# EAGLE library part M111-P44 (library amd-mach)
AMD MACH SERIES
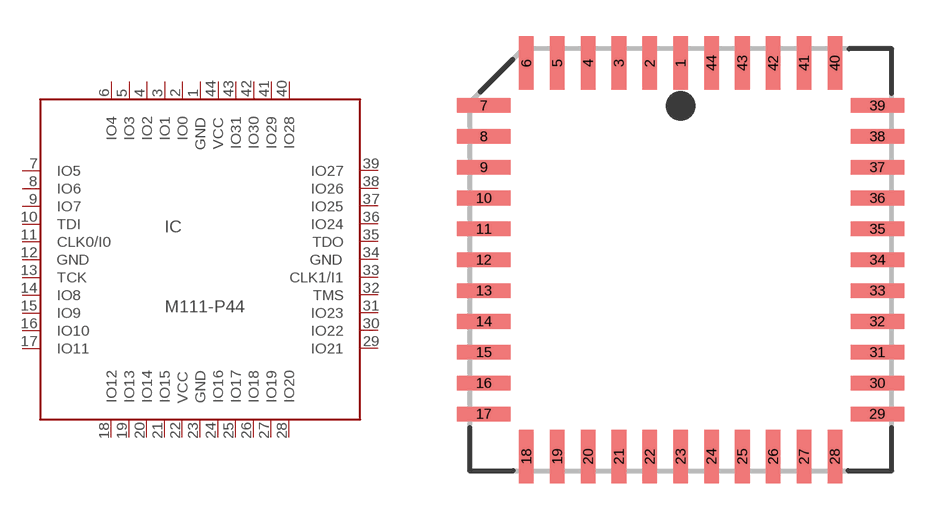
[diagram p20: symbol with the pads of PLCC44; footprint PLCC44]

Designator prefix IC

## M111-P44 (OC_FARNELL: unknown; OC_NEWARK: unknown)  [PLCC44]
1  GND  pwr
2  IO0
3  IO1
4  IO2
5  IO3
6  IO4
7  IO5
8  IO6
9  IO7
10  TDI  in
11  CLK0/I0  in
12  GND  pwr
13  TCK  in
14  IO8
15  IO9
16  IO10
17  IO11
18  IO12
19  IO13
20  IO14
21  IO15
22  VCC  pwr
23  GND  pwr
24  IO16
25  IO17
26  IO18
27  IO19
28  IO20
29  IO21
30  IO22
31  IO23
32  TMS  in
33  CLK1/I1  in
34  GND  pwr
35  TDO  out
36  IO24
37  IO25
38  IO26
39  IO27
40  IO28
41  IO29
42  IO30
43  IO31
44  VCC  pwr

## Footprint PLCC44 (pad centres in mm)
PLASTIC LEADED CHIP CARRIER
smd 0.6 x 2.2: 1 0,8.1; 2 -1.27,8.1; 3 -2.54,8.1; 4 -3.81,8.1; 5 -5.08,8.1; 6 -6.35,8.1; 18 -6.35,-8.1; 19 -5.08,-8.1; 20 -3.81,-8.1; 21 -2.54,-8.1; 22 -1.27,-8.1; 23 0,-8.1; 24 1.27,-8.1; 25 2.54,-8.1; 26 3.81,-8.1; 27 5.08,-8.1; 28 6.35,-8.1; 40 6.35,8.1; 41 5.08,8.1; 42 3.81,8.1; 43 2.54,8.1; 44 1.27,8.1
smd 2.2 x 0.6: 7 -8.1,6.35; 8 -8.1,5.08; 9 -8.1,3.81; 10 -8.1,2.54; 11 -8.1,1.27; 12 -8.1,0; 13 -8.1,-1.27; 14 -8.1,-2.54; 15 -8.1,-3.81; 16 -8.1,-5.08; 17 -8.1,-6.35; 29 8.1,-6.35; 30 8.1,-5.08; 31 8.1,-3.81; 32 8.1,-2.54; 33 8.1,-1.27; 34 8.1,0; 35 8.1,1.27; 36 8.1,2.54; 37 8.1,3.81; 38 8.1,5.08; 39 8.1,6.35